# Altium integrated library DC-DC_converters.IntLib: 4 symbols
Pins are listed as number, name and electrical type; pins without a type are passive.

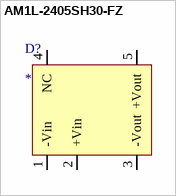
[diagram p0: symbol AM1L-2405SH30-FZ]

## AM1L-2405SH30-FZ
designator D?
AM1L-2405SH30-FZ, DC/DC преобразователь, 1 Вт, вход 21,6-26,4 В, выход 5 В/200 мА; Input voltage range: 21.6-26.4V; Output fixed voltage: 5V; Output current (max): 200 mA; Efficiency: 71%; Ouput power (max): 1W
footprint AM1L-FZ
pins: 1 -Vin, 2 +Vin, 3 -Vout, 4 NC, 5 +Vout


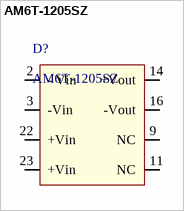
[diagram p1: symbol AM6T-1205SZ]

## AM6T-1205SZ
designator D?
Импульсный DC-DC преобразователь напряжения; Input voltage range: 9-18V; Output voltage: 5V; Iout (max): 1.2A; Efficiency: 77%
footprint AM6T-Z
pins: 2 - Vin, 3 -Vin, 9 NC, 11 NC, 14 +Vout, 16 -Vout, 22 +Vin, 23 +Vin


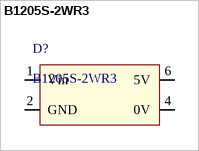
[diagram p2: symbol B1205S-2WR3]

## B1205S-2WR3
designator D?
Isolated DCDC power supply, 2W input 12 output 5; Input voltage range: 10.8-13.2V; Output voltage: 5V; Iout (max): 400mA; Efficiency (max): 82%; Output power (max): 2W
footprint B_S-2WR3
pins: 1 Vin, 2 GND, 4 0V, 6 5V


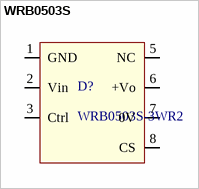
[diagram p3: symbol WRB0503S]

## WRB0503S
designator D?, comment WRB0503S-3WR2
3W, Wide input voltage, isolated & regulated dual / / single output DC/DC converter
footprint WRB-3WR2
pins: 1 GND, 2 Vin, 3 Ctrl, 5 NC, 6 +Vo, 7 0V, 8 CS